# Altium schematic symbol library 2221-LIB.SchLib: 1 symbol
Pins are listed as number, name and electrical type; pins without a type are passive.

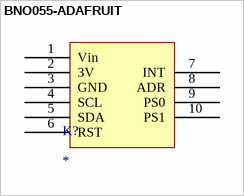
[diagram p0: symbol BNO055-ADAFRUIT]

## BNO055-ADAFRUIT
designator K?
pins: 1 Vin, 2 3V, 3 GND, 4 SCL, 5 SDA, 6 RST, 7 INT, 8 ADR, 9 PS0, 10 PS1